# EAGLE library part 615008149521M (library Wurth-USB)
WR-MJ_Modular Jack_Tab UP_8P8C_MiddleAssembly 8P8C Tab UP_Middle Assembly Housing Code : Con_WR-MJ_Horizontal_Plastic_6150xx149521 <http://katalog.we-online.de/media/images/eican/Con_WR-MJ_Horizontal_Plastic_6150xx149521_pf2.jpg> Details see: http://katalog.we-online.de/en/em/MJ_HORIZONTAL_PLASTIC_ASSEMBLY_8P8C_TAB_UP Created 2014-12-22, aslant tao 2014 (C) Würth Elektronik
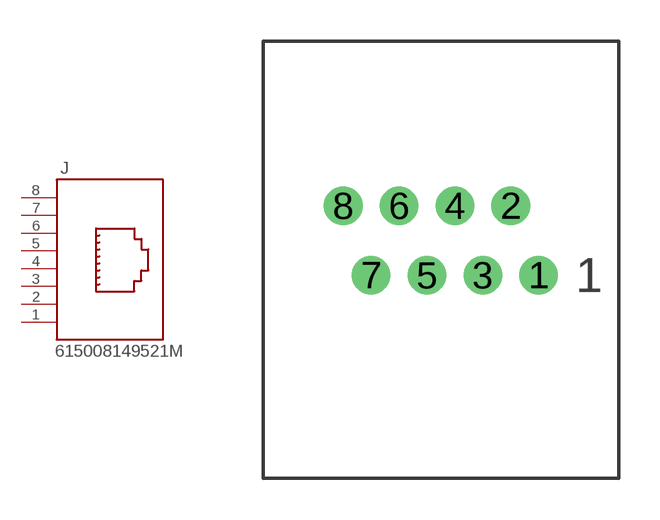
[diagram p159: symbol with the pads of 615008149521M; footprint 615008149521M]

Designator prefix J

## 615008149521M  [615008149521M]
1  1  pas
2  2  pas
3  3  pas
4  4  pas
5  5  pas
6  6  pas
7  7  pas
8  8  pas

## Footprint 615008149521M (pad centres in mm)
WR-MJ_Modular Jack_Tab UP_8P8C_MiddleAssembly 8P8C Tab UP_Middle Assembly Housing
drill 0.9: 1 3.57,-1.27; 2 2.55,1.27; 3 1.53,-1.27; 4 0.51,1.27; 5 -0.51,-1.27; 6 -1.53,1.27; 7 -2.55,-1.27; 8 -3.57,1.27